# Altium schematic symbol library SL22 2R018-B.SchLib: 1 symbol
Pins are listed as number, name and electrical type; pins without a type are passive.

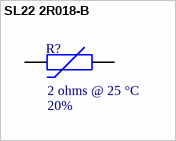
[diagram p0: symbol SL22 2R018-B]

## SL22 2R018-B
designator R?  Resistance at 25C: 2 ohms @ 25 °C  Tolerance: 20%  (hidden comment: SL22 2R018-B)
Inrush Current Limiters 22mm 2ohms 18A KINK INRSH CURR LIMITER /; MFR: Vishay Dale; PN: SL22 2R018-B; Footprint: SL22 2R018-B; Package: SL22 2R018-B; ComponentLink1Description: Datasheet; ComponentLink1URL: https://www.mouser.ca/datasheet/2/600/SL222R018-238001.pdf; Current: 18A; Supplier 1: Mouser; Supplier Part Number 1: 995-SL22-2R018-B
footprint SL22 2R018-B
pins: 1, 2